# Altium footprint library CAN - Circle pin arrangement.PcbLib: 25 footprints (part 2 of 2)
Each footprint in its own frame and in the unit in brackets; x right, y up, seen from the top. Pads: shape width x height; smd on the part's side, far side on the other; paste and mask are expansions set on the pad; w line width, h text height; cw(c..) or ccw(c..) is an arc to the next point about the centre after c.
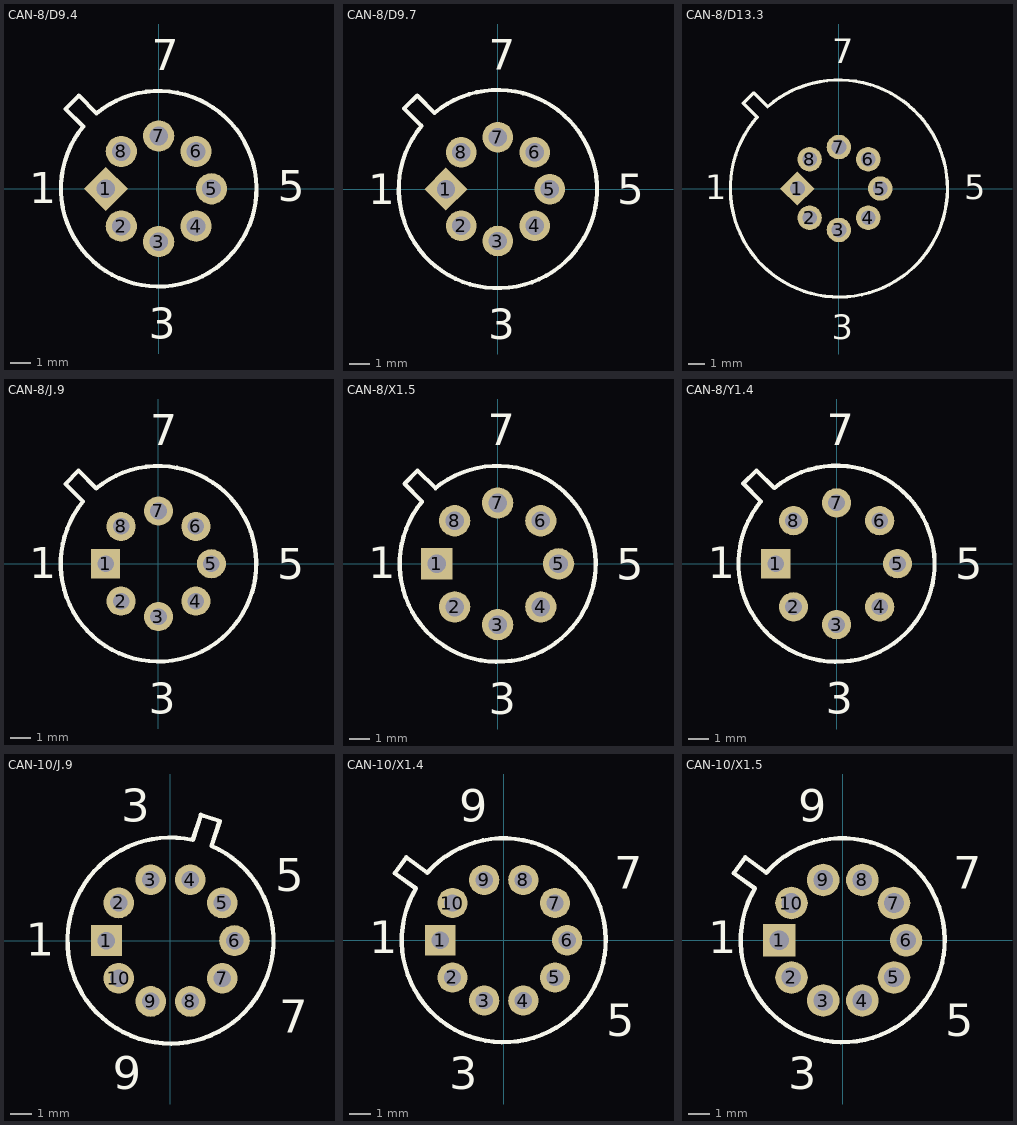
[diagram p1: the footprints below, top view; thin cyan lines are the x and y axes]

## CAN-8/D9.4 [mm] "Can; 8 Leads; Pin Circle Dia. 5.08 mm; Lead Dia. 0.53 mm (max)"
height 4.7
pads (8):
  rect 1.5x1.5 hole 0.9 rot 45: 1(-2.54,0)
  round 1.5 hole 0.9: 2(-1.796,-1.796) 3(0,-2.54) 4(1.796,-1.796) 5(2.54,0) 6(1.796,1.796) 7(0,2.54) 8(-1.796,1.796)
Top Overlay:
  lines w0.2: -4.475,3.838 -3.838,4.475 -2.99,3.626 cw(c0,0) -3.626,2.99 -4.475,3.838
  text "1" at -6.22,-0.696 h1.5
  text "3" at -0.469,-7.22 h1.5
  text "5" at 5.712,-0.589 h1.5
  text "7" at -0.332,5.7 h1.5

## CAN-8/D9.7 [mm] "Can; 8 Leads; Pin Circle Dia. 5.08 mm (TO-99); Lead Dia. 0.53 mm (max)"
height 5.72
pads (8):
  rect 1.5x1.5 hole 0.9 rot 45: 1(-2.54,0)
  round 1.5 hole 0.9: 2(-1.796,-1.796) 3(0,-2.54) 4(1.796,-1.796) 5(2.54,0) 6(1.796,1.796) 7(0,2.54) 8(-1.796,1.796)
Top Overlay:
  lines w0.2: -4.581,3.945 -3.945,4.581 -3.096,3.733 cw(c0,0) -3.733,3.096 -4.581,3.945
  text "1" at -6.352,-0.737 h1.5
  text "3" at -0.479,-7.332 h1.5
  text "5" at 5.84,-0.737 h1.5
  text "7" at -0.442,5.841 h1.5

## CAN-8/D13.3 [mm] "Can; 8 Leads; Pin Circle Dia. 5.08 mm; Lead Dia. 0.53 mm (max)"
height 8.82
pads (8):
  rect 1.5x1.5 hole 0.9 rot 45: 1(-2.54,0)
  round 1.5 hole 0.9: 2(-1.796,-1.796) 3(0,-2.54) 4(1.796,-1.796) 5(2.54,0) 6(1.796,1.796) 7(0,2.54) 8(-1.796,1.796)
Top Overlay:
  lines w0.2: -5.858,5.222 -5.222,5.858 -4.373,5.01 cw(c0,0) -5.01,4.373 -5.858,5.222
  text "7" at -0.406,7.66 h1.5
  text "5" at 7.668,-0.667 h1.5
  text "3" at -0.431,-9.221 h1.5
  text "1" at -8.177,-0.667 h1.5

## CAN-8/J.9 [mm] "Can; 8 Leads; Pin Circle Dia. 5.08 mm; Lead Dia. 0.48 mm (max)"
height 5.84
pads (8):
  rect 1.4x1.4 hole 0.8: 1(-2.54,0)
  round 1.4 hole 0.8: 2(-1.796,-1.796) 3(0,-2.54) 4(1.796,-1.796) 5(2.54,0) 6(1.796,1.796) 7(0,2.54) 8(-1.796,1.796)
Top Overlay:
  lines w0.2: -4.475,3.838 -3.838,4.475 -2.99,3.626 cw(c0,0) -3.626,2.99 -4.475,3.838
  text "1" at -6.201,-0.697 h1.5
  text "3" at -0.469,-7.22 h1.5
  text "5" at 5.713,-0.751 h1.5
  text "7" at -0.397,5.7 h1.5

## CAN-8/X1.5 [mm] "Can; 8 Leads; Pin Circle Dia. 5.84 mm; Lead Dia. 0.53 mm (max)"
height 4.7
pads (8):
  rect 1.5x1.5 hole 0.9: 1(-2.92,0)
  round 1.5 hole 0.9: 2(-2.065,-2.065) 3(0,-2.92) 4(2.065,-2.065) 5(2.92,0) 6(2.065,2.065) 7(0,2.92) 8(-2.065,2.065)
Top Overlay:
  lines w0.2: -4.475,3.838 -3.626,2.99 ccw(c0,0) -2.99,3.626 -3.838,4.475 -4.475,3.838
  text "7" at -0.472,5.683 h1.5
  text "5" at 5.691,-0.769 h1.5
  text "3" at -0.436,-7.201 h1.5
  text "1" at -6.204,-0.697 h1.5

## CAN-8/Y1.4 [mm] "Can; 8 Leads; Pin Circle Dia. 5.84 mm; Lead Dia. 0.48 mm (max)"
height 4.7
pads (8):
  rect 1.4x1.4 hole 0.8: 1(-2.92,0)
  round 1.4 hole 0.8: 2(-2.065,-2.065) 3(0,-2.92) 4(2.065,-2.065) 5(2.92,0) 6(2.065,2.065) 7(0,2.92) 8(-2.065,2.065)
Top Overlay:
  lines w0.2: -4.475,3.838 -3.626,2.99 ccw(c0,0) -2.99,3.626 -3.838,4.475 -4.475,3.838
  text "1" at -6.181,-0.697 h1.5
  text "3" at -0.508,-7.202 h1.5
  text "5" at 5.679,-0.733 h1.5
  text "7" at -0.472,5.676 h1.5

## CAN-10/J.9 [mm] "Can; 10 Leads; Pin Circle Dia. 5.84 mm; Lead Dia. 0.48 mm (max)"
height 4.7
pads (10):
  rect 1.4x1.4 hole 0.8: 1(-2.92,0)
  round 1.4 hole 0.8: 2(-2.362,1.716) 3(-0.902,2.777) 4(0.902,2.777) 5(2.362,1.716) 6(2.92,0) 7(2.362,-1.716) 8(0.902,-2.777) 9(-0.902,-2.777) 10(-2.362,-1.716)
Top Overlay:
  lines w0.2: 1.018,4.588 ccw(c0,0) 1.874,4.31 2.245,5.452 1.389,5.73 1.018,4.588
  text "1" at -6.596,-0.689 h1.5
  text "3" at -2.248,5.412 h1.5
  text "5" at 4.779,2.259 h1.5
  text "7" at 4.96,-4.21 h1.5
  text "9" at -2.636,-6.769 h1.5

## CAN-10/X1.4 [mm] "Can; 10 Leads; Pin Circle Dia. 5.84 mm; Lead Dia. 0.48 mm (max)"
height 4.7
pads (10):
  rect 1.4x1.4 hole 0.8: 1(-2.92,0)
  round 1.4 hole 0.8: 2(-2.362,-1.716) 3(-0.902,-2.777) 4(0.902,-2.777) 5(2.362,-1.716) 6(2.92,0) 7(2.362,1.716) 8(0.902,2.777) 9(-0.902,2.777) 10(-2.362,1.716)
Top Overlay:
  lines w0.2: -4.049,2.386 -5.02,3.091 -4.491,3.819 -3.52,3.114 cw(c0,0) -4.049,2.386
  text "1" at -6.207,-0.592 h1.5
  text "3" at -2.511,-6.856 h1.5
  text "5" at 4.736,-4.434 h1.5
  text "7" at 5.1,2.376 h1.5
  text "9" at -2.056,5.471 h1.5

## CAN-10/X1.5 [mm] "Can; 10 Leads; Pin Circle Dia. 5.84 mm; Lead Dia. 0.53 mm (max)"
height 4.7
pads (10):
  rect 1.5x1.5 hole 0.9: 1(-2.92,0)
  round 1.5 hole 0.9: 2(-2.362,-1.716) 3(-0.902,-2.777) 4(0.902,-2.777) 5(2.362,-1.716) 6(2.92,0) 7(2.362,1.716) 8(0.902,2.777) 9(-0.902,2.777) 10(-2.362,1.716)
Top Overlay:
  lines w0.2: -4.049,2.386 -5.02,3.091 -4.491,3.819 -3.52,3.114 cw(c0,0) -4.049,2.386
  text "1" at -6.207,-0.592 h1.5
  text "3" at -2.511,-6.856 h1.5
  text "5" at 4.736,-4.434 h1.5
  text "7" at 5.1,2.376 h1.5
  text "9" at -2.056,5.471 h1.5